# EAGLE library part 8BRICK (library jason_eagle6)
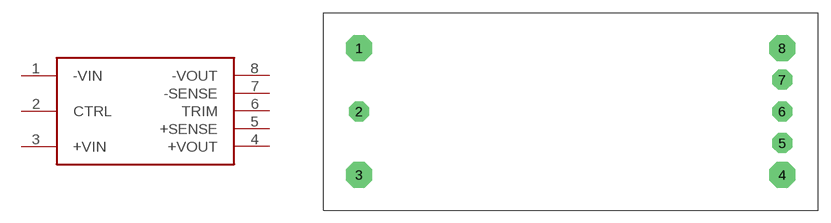
[diagram p51: symbol with the pads of 8BRICK; footprint 8BRICK]

Designator prefix -

## 8BRICK  [8BRICK]
1  -VIN
2  CTRL
3  +VIN
4  +VOUT
5  +SENSE
6  TRIM
7  -SENSE
8  -VOUT

## Footprint 8BRICK (pad centres in mm)
drill 2.1 octagon: 1 4.3,19.52; 3 4.3,4.28; 4 55.1,4.28; 8 55.1,19.52
drill 1.6 octagon: 2 4.3,11.9; 5 55.1,8.09; 6 55.1,11.9; 7 55.1,15.71